# Altium footprint library atmega2560.PcbLib: 3 footprints
Each footprint in its own frame and in the unit in brackets; x right, y up, seen from the top. Pads: shape width x height; smd on the part's side, far side on the other; paste and mask are expansions set on the pad; w line width, h text height; cw(c..) or ccw(c..) is an arc to the next point about the centre after c.
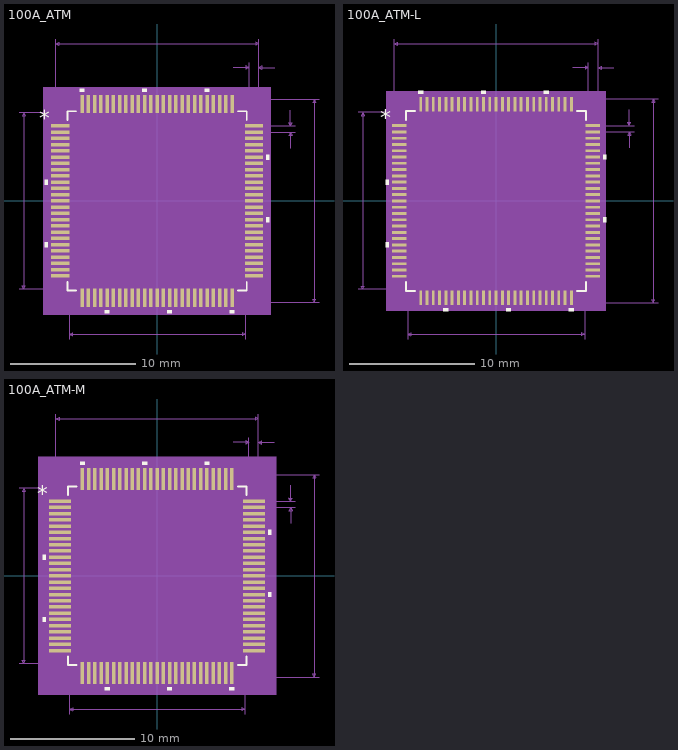
[diagram p0: the footprints below, top view; thin cyan lines are the x and y axes]

## 100A_ATM [mil]
pads (100):
  rect 57.56x11 smd paste+0 mask+0: 1(-305,236.22) 2(-305,216.54) 3(-305,196.85) 4(-305,177.17) 5(-305,157.48) 6(-305,137.8) 7(-305,118.11) 8(-305,98.43) 9(-305,78.74) 10(-305,59.06) 11(-305,39.37) 12(-305,19.69) 13(-305,0) 14(-305,-19.68) 15(-305,-39.37) 16(-305,-59.06) 17(-305,-78.74) 18(-305,-98.43) 19(-305,-118.11) 20(-305,-137.8) 21(-305,-157.48) 22(-305,-177.17) 23(-305,-196.85) 24(-305,-216.54) 25(-305,-236.22) 51(305,-236.22) 52(305,-216.54) 53(305,-196.85) 54(305,-177.17) 55(305,-157.48) 56(305,-137.8) 57(305,-118.11) 58(305,-98.43) 59(305,-78.74) 60(305,-59.06) 61(305,-39.37) 62(305,-19.68) 63(305,0) 64(305,19.68) 65(305,39.37) 66(305,59.06) 67(305,78.74) 68(305,98.43) 69(305,118.11) 70(305,137.8) 71(305,157.48) 72(305,177.17) 73(305,196.85) 74(305,216.54) 75(305,236.22)
  rect 11x57.56 smd paste+0 mask+0: 26(-236.22,-305) 27(-216.54,-305) 28(-196.85,-305) 29(-177.17,-305) 30(-157.48,-305) 31(-137.8,-305) 32(-118.11,-305) 33(-98.43,-305) 34(-78.74,-305) 35(-59.06,-305) 36(-39.37,-305) 37(-19.68,-305) 38(0,-305) 39(19.68,-305) 40(39.37,-305) 41(59.06,-305) 42(78.74,-305) 43(98.43,-305) 44(118.11,-305) 45(137.8,-305) 46(157.48,-305) 47(177.17,-305) 48(196.85,-305) 49(216.54,-305) 50(236.22,-305) 76(236.22,305) 77(216.54,305) 78(196.85,305) 79(177.17,305) 80(157.48,305) 81(137.8,305) 82(118.11,305) 83(98.43,305) 84(78.74,305) 85(59.06,305) 86(39.37,305) 87(19.68,305) 88(0,305) 89(-19.68,305) 90(-39.37,305) 91(-59.06,305) 92(-78.74,305) 93(-98.43,305) 94(-118.11,305) 95(-137.8,305) 96(-157.48,305) 97(-177.17,305) 98(-196.85,305) 99(-216.54,305) 100(-236.22,305)
Top Overlay:
  region: -343.78,66.56 -353.78,66.56 -353.78,51.56 -343.78,51.56
  region: -343.78,-130.3 -353.78,-130.3 -353.78,-145.3 -343.78,-145.3
  region: -149.98,-343.78 -164.98,-343.78 -164.98,-353.78 -149.98,-353.78
  region: 46.87,-343.78 31.87,-343.78 31.87,-353.78 46.87,-353.78
  region: 243.72,-343.78 228.72,-343.78 228.72,-353.78 243.72,-353.78
  region: 343.78,-51.56 353.78,-51.56 353.78,-66.56 343.78,-66.56
  region: 343.78,145.3 353.78,145.3 353.78,130.3 343.78,130.3
  region: 164.98,343.78 149.98,343.78 149.98,353.78 164.98,353.78
  region: -31.87,343.78 -46.87,343.78 -46.87,353.78 -31.87,353.78
  region: -228.72,343.78 -243.72,343.78 -243.72,353.78 -228.72,353.78
  lines w6: -282.5,-254.82 -282.5,-282.5 -254.82,-282.5 ; -282.5,254.82 -282.5,282.5 -254.82,282.5 ; 254.82,-282.5 282.5,-282.5 282.5,-254.82 ; 254.82,282.5 282.5,282.5 282.5,254.82
  text "*" at -371.28,236.06 h50
Mechanical 5:
  region: 358.78,-358.78 -358.78,-358.78 -358.78,358.78 358.78,358.78
Mechanical 7:
  lines w1: -435,-277.5 -236.22,-277.5 ; -435,277.5 -236.22,277.5 ; -320,236.22 -320,510 ; -277.5,-435 -277.5,-236.22 ; 236.22,-320 510,-320 ; 236.22,320 510,320 ; 240,420 290,420 ; 277.5,-435 277.5,-236.22 ; 290,236.22 290,435 ; 305,216.54 435,216.54 ; 305,236.22 435,236.22 ; 320,435 320,236.22 320,510 ; 370,420 320,420 ; 420,166.54 420,216.54 ; 420,286.22 420,236.22 ; -420,-277.5 -420,277.5 ; -420,-277.5 -425,-267.5 -415,-267.5 -420,-277.5 ; -420,277.5 -425,267.5 -415,267.5 -420,277.5 ; -320,495 320,495 ; -320,495 -310,500 -310,490 -320,495 ; -277.5,-420 277.5,-420 ; -277.5,-420 -267.5,-415 -267.5,-425 -277.5,-420 ; 277.5,-420 267.5,-415 267.5,-425 277.5,-420 ; 290,420 280,425 280,415 290,420 ; 320,420 330,425 330,415 320,420 ; 320,495 310,500 310,490 320,495 ; 420,216.54 415,206.54 425,206.54 420,216.54 ; 420,236.22 415,246.22 425,246.22 420,236.22 ; 495,-320 495,320 ; 495,-320 490,-310 500,-310 495,-320 ; 495,320 490,310 500,310 495,320
  text "Default Horiz Padstyle: r28_146" at -387.5,-570 h50
  text "Default Vert Padstyle: r28_146" at -375,-630 h50
  text "Alt 1 Padstyle: b152_229h76" at -337.5,-810 h50
  text "Alt 2 Padstyle: b229_152h76" at -337.5,-870 h50
  text "0.02in/0.5mm" at 440,213.88 h25
  text "0.03in/0.762mm" at 217.5,440 h25
  text "0.64in/16.256mm" at -93.75,515 h25
  text "0.555in/14.097mm" at -100,-465 h25
  text "0.555in/14.097mm" at -640,-12.5 h25
  text "0.64in/16.256mm" at 515,-12.5 h25
Mechanical 13:
  drawing of 409 lines, arcs and shapes, not listed
  text "*" at -275,221.06 h50
Mechanical 15:
  region: -251.72,-287.5 -287.5,-287.5 -287.5,-251.72 -343.78,-251.72 -343.78,251.72 -287.5,251.72 -287.5,287.5 -251.72,287.5 -251.72,343.78 251.72,343.78 251.72,287.5 287.5,287.5 287.5,251.72 343.78,251.72 343.78,-251.72 287.5,-251.72 287.5,-287.5 251.72,-287.5 251.72,-343.78 -251.72,-343.78
  lines w6: -343.78,-251.72 -287.5,-251.72 -287.5,-287.5 -251.72,-287.5 -251.72,-343.78 251.72,-343.78 251.72,-287.5 287.5,-287.5 287.5,-251.72 343.78,-251.72 343.78,251.72 287.5,251.72 287.5,287.5 251.72,287.5 251.72,343.78 -251.72,343.78 -251.72,287.5 -287.5,287.5 -287.5,251.72 -343.78,251.72 -343.78,-251.72
3D body: height 10, standoff 0, extent 0,0 10,10

## 100A_ATM-L [mm]
pads (100):
  rect 1.162x0.229 smd paste+0 mask+0: 1(-7.697,6) 2(-7.697,5.5) 3(-7.697,5) 4(-7.697,4.5) 5(-7.697,4) 6(-7.697,3.5) 7(-7.697,3) 8(-7.697,2.5) 9(-7.697,2) 10(-7.697,1.5) 11(-7.697,1) 12(-7.697,0.5) 13(-7.697,0) 14(-7.697,-0.5) 15(-7.697,-1) 16(-7.697,-1.5) 17(-7.697,-2) 18(-7.697,-2.5) 19(-7.697,-3) 20(-7.697,-3.5) 21(-7.697,-4) 22(-7.697,-4.5) 23(-7.697,-5) 24(-7.697,-5.5) 25(-7.697,-6) 51(7.697,-6) 52(7.697,-5.5) 53(7.697,-5) 54(7.697,-4.5) 55(7.697,-4) 56(7.697,-3.5) 57(7.697,-3) 58(7.697,-2.5) 59(7.697,-2) 60(7.697,-1.5) 61(7.697,-1) 62(7.697,-0.5) 63(7.697,0) 64(7.697,0.5) 65(7.697,1) 66(7.697,1.5) 67(7.697,2) 68(7.697,2.5) 69(7.697,3) 70(7.697,3.5) 71(7.697,4) 72(7.697,4.5) 73(7.697,5) 74(7.697,5.5) 75(7.697,6)
  rect 0.229x1.162 smd paste+0 mask+0: 26(-6,-7.697) 27(-5.5,-7.697) 28(-5,-7.697) 29(-4.5,-7.697) 30(-4,-7.697) 31(-3.5,-7.697) 32(-3,-7.697) 33(-2.5,-7.697) 34(-2,-7.697) 35(-1.5,-7.697) 36(-1,-7.697) 37(-0.5,-7.697) 38(0,-7.697) 39(0.5,-7.697) 40(1,-7.697) 41(1.5,-7.697) 42(2,-7.697) 43(2.5,-7.697) 44(3,-7.697) 45(3.5,-7.697) 46(4,-7.697) 47(4.5,-7.697) 48(5,-7.697) 49(5.5,-7.697) 50(6,-7.697) 76(6,7.697) 77(5.5,7.697) 78(5,7.697) 79(4.5,7.697) 80(4,7.697) 81(3.5,7.697) 82(3,7.697) 83(2.5,7.697) 84(2,7.697) 85(1.5,7.697) 86(1,7.697) 87(0.5,7.697) 88(0,7.697) 89(-0.5,7.697) 90(-1,7.697) 91(-1.5,7.697) 92(-2,7.697) 93(-2.5,7.697) 94(-3,7.697) 95(-3.5,7.697) 96(-4,7.697) 97(-4.5,7.697) 98(-5,7.697) 99(-5.5,7.697) 100(-6,7.697)
Top Overlay:
  region: -8.532,1.69 -8.786,1.69 -8.786,1.309 -8.532,1.309
  region: -8.532,-3.31 -8.786,-3.31 -8.786,-3.691 -8.532,-3.691
  region: -3.809,-8.532 -4.19,-8.532 -4.19,-8.786 -3.809,-8.786
  region: 1.191,-8.532 0.81,-8.532 0.81,-8.786 1.191,-8.786
  region: 6.191,-8.532 5.81,-8.532 5.81,-8.786 6.191,-8.786
  region: 8.532,-1.309 8.786,-1.309 8.786,-1.69 8.532,-1.69
  region: 8.532,3.691 8.786,3.691 8.786,3.31 8.532,3.31
  region: 4.19,8.532 3.809,8.532 3.809,8.786 4.19,8.786
  region: -0.81,8.532 -1.191,8.532 -1.191,8.786 -0.81,8.786
  region: -5.81,8.532 -6.191,8.532 -6.191,8.786 -5.81,8.786
  lines w0.152: -7.175,-6.447 -7.175,-7.175 -6.447,-7.175 ; -7.175,6.447 -7.175,7.175 -6.447,7.175 ; 6.447,-7.175 7.175,-7.175 7.175,-6.447 ; 6.447,7.175 7.175,7.175 7.175,6.447
  text "*" at -9.23,5.996 h1.27
Mechanical 5:
  region: 8.761,-8.761 -8.761,-8.761 -8.761,8.761 8.761,8.761
Mechanical 7:
  lines w0.025: -10.999,-7.048 -6,-7.048 ; -10.999,7.048 -6,7.048 ; -8.128,6 -8.128,12.904 ; -7.048,-10.999 -7.048,-6 ; 6,-8.128 12.904,-8.128 ; 6,8.128 12.904,8.128 ; 6.096,10.618 7.366,10.618 ; 7.048,-10.999 7.048,-6 ; 7.366,6 7.366,10.999 ; 7.697,5.5 10.999,5.5 ; 7.697,6 10.999,6 ; 8.128,10.999 8.128,6 8.128,12.904 ; 9.398,10.618 8.128,10.618 ; 10.618,4.23 10.618,5.5 ; 10.618,7.27 10.618,6 ; -10.618,-7.048 -10.618,7.048 ; -10.618,-7.048 -10.745,-6.794 -10.491,-6.794 -10.618,-7.048 ; -10.618,7.048 -10.745,6.794 -10.491,6.794 -10.618,7.048 ; -8.128,12.523 8.128,12.523 ; -8.128,12.523 -7.874,12.65 -7.874,12.396 -8.128,12.523 ; -7.048,-10.618 7.048,-10.618 ; -7.048,-10.618 -6.794,-10.491 -6.794,-10.745 -7.048,-10.618 ; 7.048,-10.618 6.794,-10.491 6.794,-10.745 7.048,-10.618 ; 7.366,10.618 7.112,10.745 7.112,10.491 7.366,10.618 ; 8.128,10.618 8.382,10.745 8.382,10.491 8.128,10.618 ; 8.128,12.523 7.874,12.65 7.874,12.396 8.128,12.523 ; 10.618,5.5 10.491,5.246 10.745,5.246 10.618,5.5 ; 10.618,6 10.491,6.254 10.745,6.254 10.618,6 ; 12.523,-8.128 12.523,8.128 ; 12.523,-8.128 12.396,-7.874 12.65,-7.874 12.523,-8.128 ; 12.523,8.128 12.396,7.874 12.65,7.874 12.523,8.128
  text "Default Horiz Padstyle: r23_116" at -9.842,-14.428 h1.27
  text "Default Vert Padstyle: r23_116" at -9.525,-15.952 h1.27
  text "Alt 1 Padstyle: b152_229h76" at -8.572,-20.524 h1.27
  text "Alt 2 Padstyle: b229_152h76" at -8.572,-22.048 h1.27
  text "0.02in/0.5mm" at 11.126,5.433 h0.64
  text "0.03in/0.762mm" at 5.524,11.126 h0.64
  text "0.64in/16.256mm" at -2.381,13.031 h0.64
  text "0.555in/14.097mm" at -2.54,-11.761 h0.64
  text "0.555in/14.097mm" at -16.206,-0.318 h0.64
  text "0.64in/16.256mm" at 13.031,-0.318 h0.64
Mechanical 13:
  drawing of 409 lines, arcs and shapes, not listed
  text "*" at -6.985,5.615 h1.27
Mechanical 15:
  region: -6.216,-7.15 -7.15,-7.15 -7.15,-6.216 -8.38,-6.216 -8.38,6.216 -7.15,6.216 -7.15,7.15 -6.216,7.15 -6.216,8.38 6.216,8.38 6.216,7.15 7.15,7.15 7.15,6.216 8.38,6.216 8.38,-6.216 7.15,-6.216 7.15,-7.15 6.216,-7.15 6.216,-8.38 -6.216,-8.38
  lines w0.152: -8.38,-6.216 -7.15,-6.216 -7.15,-7.15 -6.216,-7.15 -6.216,-8.38 6.216,-8.38 6.216,-7.15 7.15,-7.15 7.15,-6.216 8.38,-6.216 8.38,6.216 7.15,6.216 7.15,7.15 6.216,7.15 6.216,8.38 -6.216,8.38 -6.216,7.15 -7.15,7.15 -7.15,6.216 -8.38,6.216 -8.38,-6.216
3D body: height 0.25, standoff 0, extent 0,0 0.254,0.254

## 100A_ATM-M [mil]
pads (100):
  rect 69.37x11 smd paste+0 mask+0: 1(-306.97,236.22) 2(-306.97,216.54) 3(-306.97,196.85) 4(-306.97,177.17) 5(-306.97,157.48) 6(-306.97,137.8) 7(-306.97,118.11) 8(-306.97,98.43) 9(-306.97,78.74) 10(-306.97,59.06) 11(-306.97,39.37) 12(-306.97,19.69) 13(-306.97,0) 14(-306.97,-19.68) 15(-306.97,-39.37) 16(-306.97,-59.06) 17(-306.97,-78.74) 18(-306.97,-98.43) 19(-306.97,-118.11) 20(-306.97,-137.8) 21(-306.97,-157.48) 22(-306.97,-177.17) 23(-306.97,-196.85) 24(-306.97,-216.54) 25(-306.97,-236.22) 51(306.97,-236.22) 52(306.97,-216.54) 53(306.97,-196.85) 54(306.97,-177.17) 55(306.97,-157.48) 56(306.97,-137.8) 57(306.97,-118.11) 58(306.97,-98.43) 59(306.97,-78.74) 60(306.97,-59.06) 61(306.97,-39.37) 62(306.97,-19.68) 63(306.97,0) 64(306.97,19.68) 65(306.97,39.37) 66(306.97,59.06) 67(306.97,78.74) 68(306.97,98.43) 69(306.97,118.11) 70(306.97,137.8) 71(306.97,157.48) 72(306.97,177.17) 73(306.97,196.85) 74(306.97,216.54) 75(306.97,236.22)
  rect 11x69.37 smd paste+0 mask+0: 26(-236.22,-306.97) 27(-216.54,-306.97) 28(-196.85,-306.97) 29(-177.17,-306.97) 30(-157.48,-306.97) 31(-137.8,-306.97) 32(-118.11,-306.97) 33(-98.43,-306.97) 34(-78.74,-306.97) 35(-59.06,-306.97) 36(-39.37,-306.97) 37(-19.68,-306.97) 38(0,-306.97) 39(19.68,-306.97) 40(39.37,-306.97) 41(59.06,-306.97) 42(78.74,-306.97) 43(98.43,-306.97) 44(118.11,-306.97) 45(137.8,-306.97) 46(157.48,-306.97) 47(177.17,-306.97) 48(196.85,-306.97) 49(216.54,-306.97) 50(236.22,-306.97) 76(236.22,306.97) 77(216.54,306.97) 78(196.85,306.97) 79(177.17,306.97) 80(157.48,306.97) 81(137.8,306.97) 82(118.11,306.97) 83(98.43,306.97) 84(78.74,306.97) 85(59.06,306.97) 86(39.37,306.97) 87(19.68,306.97) 88(0,306.97) 89(-19.68,306.97) 90(-39.37,306.97) 91(-59.06,306.97) 92(-78.74,306.97) 93(-98.43,306.97) 94(-118.11,306.97) 95(-137.8,306.97) 96(-157.48,306.97) 97(-177.17,306.97) 98(-196.85,306.97) 99(-216.54,306.97) 100(-236.22,306.97)
Top Overlay:
  region: -351.65,66.56 -361.65,66.56 -361.65,51.56 -351.65,51.56
  region: -351.65,-130.3 -361.65,-130.3 -361.65,-145.3 -351.65,-145.3
  region: -149.98,-351.65 -164.98,-351.65 -164.98,-361.65 -149.98,-361.65
  region: 46.87,-351.65 31.87,-351.65 31.87,-361.65 46.87,-361.65
  region: 243.72,-351.65 228.72,-351.65 228.72,-361.65 243.72,-361.65
  region: 351.65,-51.56 361.65,-51.56 361.65,-66.56 351.65,-66.56
  region: 351.65,145.3 361.65,145.3 361.65,130.3 351.65,130.3
  region: 164.98,351.65 149.98,351.65 149.98,361.65 164.98,361.65
  region: -31.87,351.65 -46.87,351.65 -46.87,361.65 -31.87,361.65
  region: -228.72,351.65 -243.72,351.65 -243.72,361.65 -228.72,361.65
  lines w6: -282.5,-254.82 -282.5,-282.5 -254.82,-282.5 ; -282.5,254.82 -282.5,282.5 -254.82,282.5 ; 254.82,-282.5 282.5,-282.5 282.5,-254.82 ; 254.82,282.5 282.5,282.5 282.5,254.82
  text "*" at -379.15,236.06 h50
Mechanical 5:
  region: 376.65,-376.65 -376.65,-376.65 -376.65,376.65 376.65,376.65
Mechanical 7:
  lines w1: -436.97,-277.5 -236.22,-277.5 ; -436.97,277.5 -236.22,277.5 ; -320,236.22 -320,511.97 ; -277.5,-436.97 -277.5,-236.22 ; 236.22,-320 511.97,-320 ; 236.22,320 511.97,320 ; 240,421.97 290,421.97 ; 277.5,-436.97 277.5,-236.22 ; 290,236.22 290,436.97 ; 306.97,216.54 436.97,216.54 ; 306.97,236.22 436.97,236.22 ; 320,436.97 320,236.22 320,511.97 ; 370,421.97 320,421.97 ; 421.97,166.54 421.97,216.54 ; 421.97,286.22 421.97,236.22 ; -421.97,-277.5 -421.97,277.5 ; -421.97,-277.5 -426.97,-267.5 -416.97,-267.5 -421.97,-277.5 ; -421.97,277.5 -426.97,267.5 -416.97,267.5 -421.97,277.5 ; -320,496.97 320,496.97 ; -320,496.97 -310,501.97 -310,491.97 -320,496.97 ; -277.5,-421.97 277.5,-421.97 ; -277.5,-421.97 -267.5,-416.97 -267.5,-426.97 -277.5,-421.97 ; 277.5,-421.97 267.5,-416.97 267.5,-426.97 277.5,-421.97 ; 290,421.97 280,426.97 280,416.97 290,421.97 ; 320,421.97 330,426.97 330,416.97 320,421.97 ; 320,496.97 310,501.97 310,491.97 320,496.97 ; 421.97,216.54 416.97,206.54 426.97,206.54 421.97,216.54 ; 421.97,236.22 416.97,246.22 426.97,246.22 421.97,236.22 ; 496.97,-320 496.97,320 ; 496.97,-320 491.97,-310 501.97,-310 496.97,-320 ; 496.97,320 491.97,310 501.97,310 496.97,320
  text "Default Horiz Padstyle: r28_176" at -387.5,-571.97 h50
  text "Default Vert Padstyle: r28_176" at -375,-631.97 h50
  text "Alt 1 Padstyle: b152_229h76" at -337.5,-811.97 h50
  text "Alt 2 Padstyle: b229_152h76" at -337.5,-871.97 h50
  text "0.02in/0.5mm" at 441.97,213.88 h25
  text "0.03in/0.762mm" at 217.5,441.97 h25
  text "0.64in/16.256mm" at -93.75,516.97 h25
  text "0.555in/14.097mm" at -100,-466.97 h25
  text "0.555in/14.097mm" at -641.97,-12.5 h25
  text "0.64in/16.256mm" at 516.97,-12.5 h25
Mechanical 13:
  drawing of 409 lines, arcs and shapes, not listed
  text "*" at -275,221.06 h50
Mechanical 15:
  region: -261.72,-297.5 -297.5,-297.5 -297.5,-261.72 -361.65,-261.72 -361.65,261.72 -297.5,261.72 -297.5,297.5 -261.72,297.5 -261.72,361.65 261.72,361.65 261.72,297.5 297.5,297.5 297.5,261.72 361.65,261.72 361.65,-261.72 297.5,-261.72 297.5,-297.5 261.72,-297.5 261.72,-361.65 -261.72,-361.65
  lines w6: -361.65,-261.72 -297.5,-261.72 -297.5,-297.5 -261.72,-297.5 -261.72,-361.65 261.72,-361.65 261.72,-297.5 297.5,-297.5 297.5,-261.72 361.65,-261.72 361.65,261.72 297.5,261.72 297.5,297.5 261.72,297.5 261.72,361.65 -261.72,361.65 -261.72,297.5 -297.5,297.5 -297.5,261.72 -361.65,261.72 -361.65,-261.72
3D body: height 10, standoff 0, extent 0,0 10,10